# Altium schematic symbol library kmilo17pet-TI_RS232.SchLib: 1272 symbols (part 14 of 37)
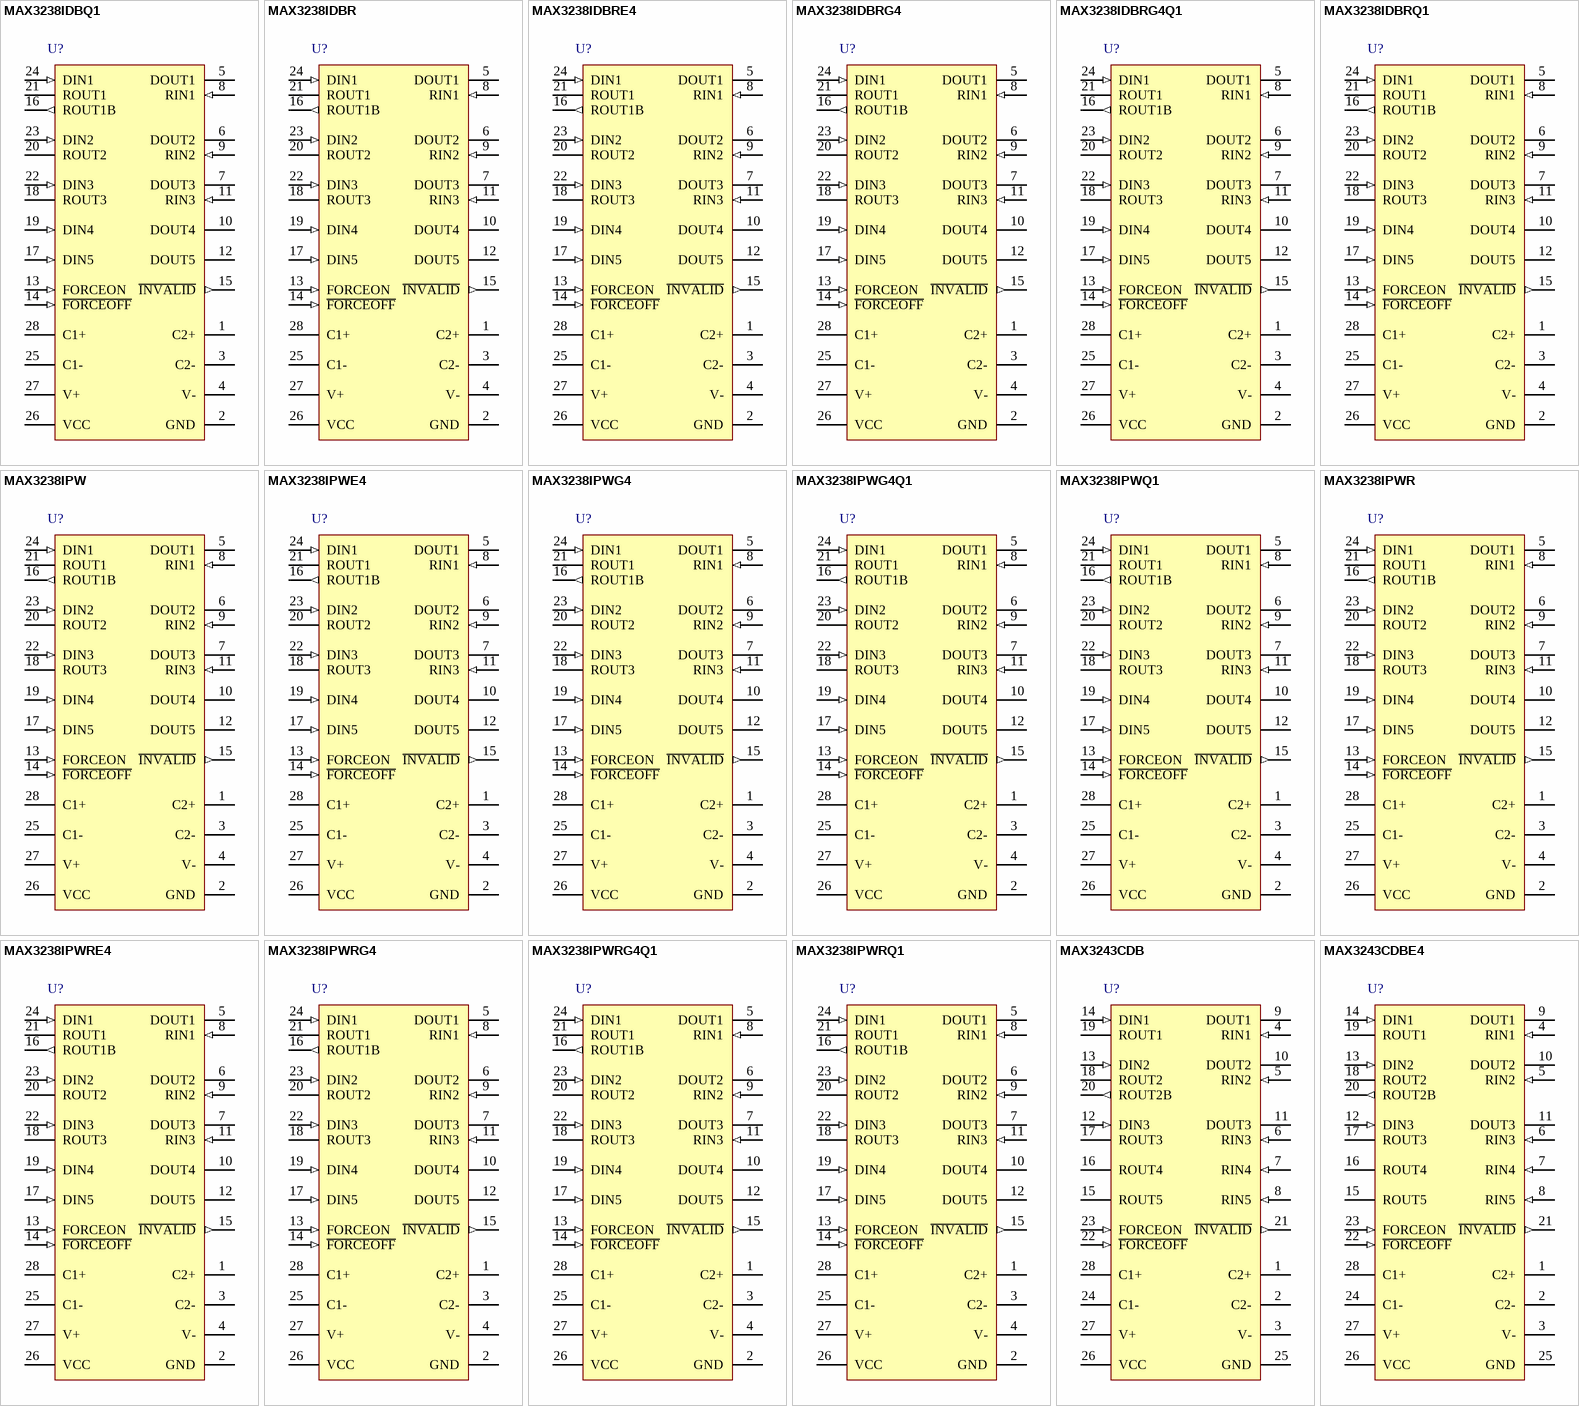
[diagram p67: symbols MAX3238IDBQ1 to MAX3243CDBE4]

## MAX3243CDB
designator U?
3-V to 5.5-V Multichannel RS-232 Line Driver / Receiver with ±15-kV ESD (HBM) Protection, 0 to 70 degC, 28-Pin SSOP (DB), Green (RoHS & no Sb/Br); Drivers Per Package: 3; Receivers Per Package: 5; Supply Voltage(s)(V): 3.3 or 5.0; ESD HBM(kV): +/-15; ICC(Max)(mA): 1; Single Supply: TRUE; DatasheetVersion: SLLS350L; PackageVersion: revE, Dec-2001; PackageReference: DB28; PackageDescription: 28-Pin Plastic Small Outline Package, 10.2 x 5.3 mm Body, 0.65 mm Pitch; SubFamily: RS-232; RS-232: TRUE; ComponentLink1Description: Manufacturer URL; ComponentLink1URL: www.ti.com; ComponentLink2Description: Datasheet; ComponentLink2URL: http://www.ti.com/general/docs/lit/getliterature.tsp?genericPartNumber=MAX3243&fileType=pdf; ComponentLink3Description: Package Specification; ComponentLink3URL: http://www.ti.com/litv/pdf/msso002e
footprint TI-DB28_N (SOP, 28-Leads, Body 10.2x5.3mm, Pitch 0.65mm, IPC Medium Density)
footprint TI-DB28_L (SOP, 28-Leads, Body 10.2x5.3mm, Pitch 0.65mm, IPC High Density)
footprint TI-DB28_M (SOP, 28-Leads, Body 10.2x5.3mm, Pitch 0.65mm, IPC Low Density)
pins: 1 C2+, 2 C2-, 3 V- (power), 4 RIN1 (in), 5 RIN2 (in), 6 RIN3 (in), 7 RIN4 (in), 8 RIN5 (in), 9 DOUT1 (hiz), 10 DOUT2 (hiz), 11 DOUT3 (hiz), 12 DIN3 (in), 13 DIN2 (in), 14 DIN1 (in), 15 ROUT5 (hiz), 16 ROUT4 (hiz), 17 ROUT3 (hiz), 18 ROUT2 (hiz), 19 ROUT1 (hiz), 20 ROUT2B (out), 21 ~{INVALID} (out), 22 ~{FORCEOFF} (in), 23 FORCEON (in), 24 C1-, 25 GND (power), 26 VCC (power), 27 V+ (power), 28 C1+

## MAX3243CDBE4
designator U?
3-V to 5.5-V Multichannel RS-232 Line Driver / Receiver with ±15-kV ESD (HBM) Protection, 0 to 70 degC, 28-Pin SSOP (DB), Green (RoHS & no Sb/Br); Drivers Per Package: 3; Receivers Per Package: 5; Supply Voltage(s)(V): 3.3 or 5.0; ESD HBM(kV): +/-15; ICC(Max)(mA): 1; Single Supply: TRUE; DatasheetVersion: SLLS350L; PackageVersion: revE, Dec-2001; PackageReference: DB28; PackageDescription: 28-Pin Plastic Small Outline Package, 10.2 x 5.3 mm Body, 0.65 mm Pitch; SubFamily: RS-232; RS-232: TRUE; ComponentLink1Description: Manufacturer URL; ComponentLink1URL: www.ti.com; ComponentLink2Description: Datasheet; ComponentLink2URL: http://www.ti.com/general/docs/lit/getliterature.tsp?genericPartNumber=MAX3243&fileType=pdf; ComponentLink3Description: Package Specification; ComponentLink3URL: http://www.ti.com/litv/pdf/msso002e
footprint TI-DB28_N (SOP, 28-Leads, Body 10.2x5.3mm, Pitch 0.65mm, IPC Medium Density)
footprint TI-DB28_L (SOP, 28-Leads, Body 10.2x5.3mm, Pitch 0.65mm, IPC High Density)
footprint TI-DB28_M (SOP, 28-Leads, Body 10.2x5.3mm, Pitch 0.65mm, IPC Low Density)
pins: 1 C2+, 2 C2-, 3 V- (power), 4 RIN1 (in), 5 RIN2 (in), 6 RIN3 (in), 7 RIN4 (in), 8 RIN5 (in), 9 DOUT1 (hiz), 10 DOUT2 (hiz), 11 DOUT3 (hiz), 12 DIN3 (in), 13 DIN2 (in), 14 DIN1 (in), 15 ROUT5 (hiz), 16 ROUT4 (hiz), 17 ROUT3 (hiz), 18 ROUT2 (hiz), 19 ROUT1 (hiz), 20 ROUT2B (out), 21 ~{INVALID} (out), 22 ~{FORCEOFF} (in), 23 FORCEON (in), 24 C1-, 25 GND (power), 26 VCC (power), 27 V+ (power), 28 C1+

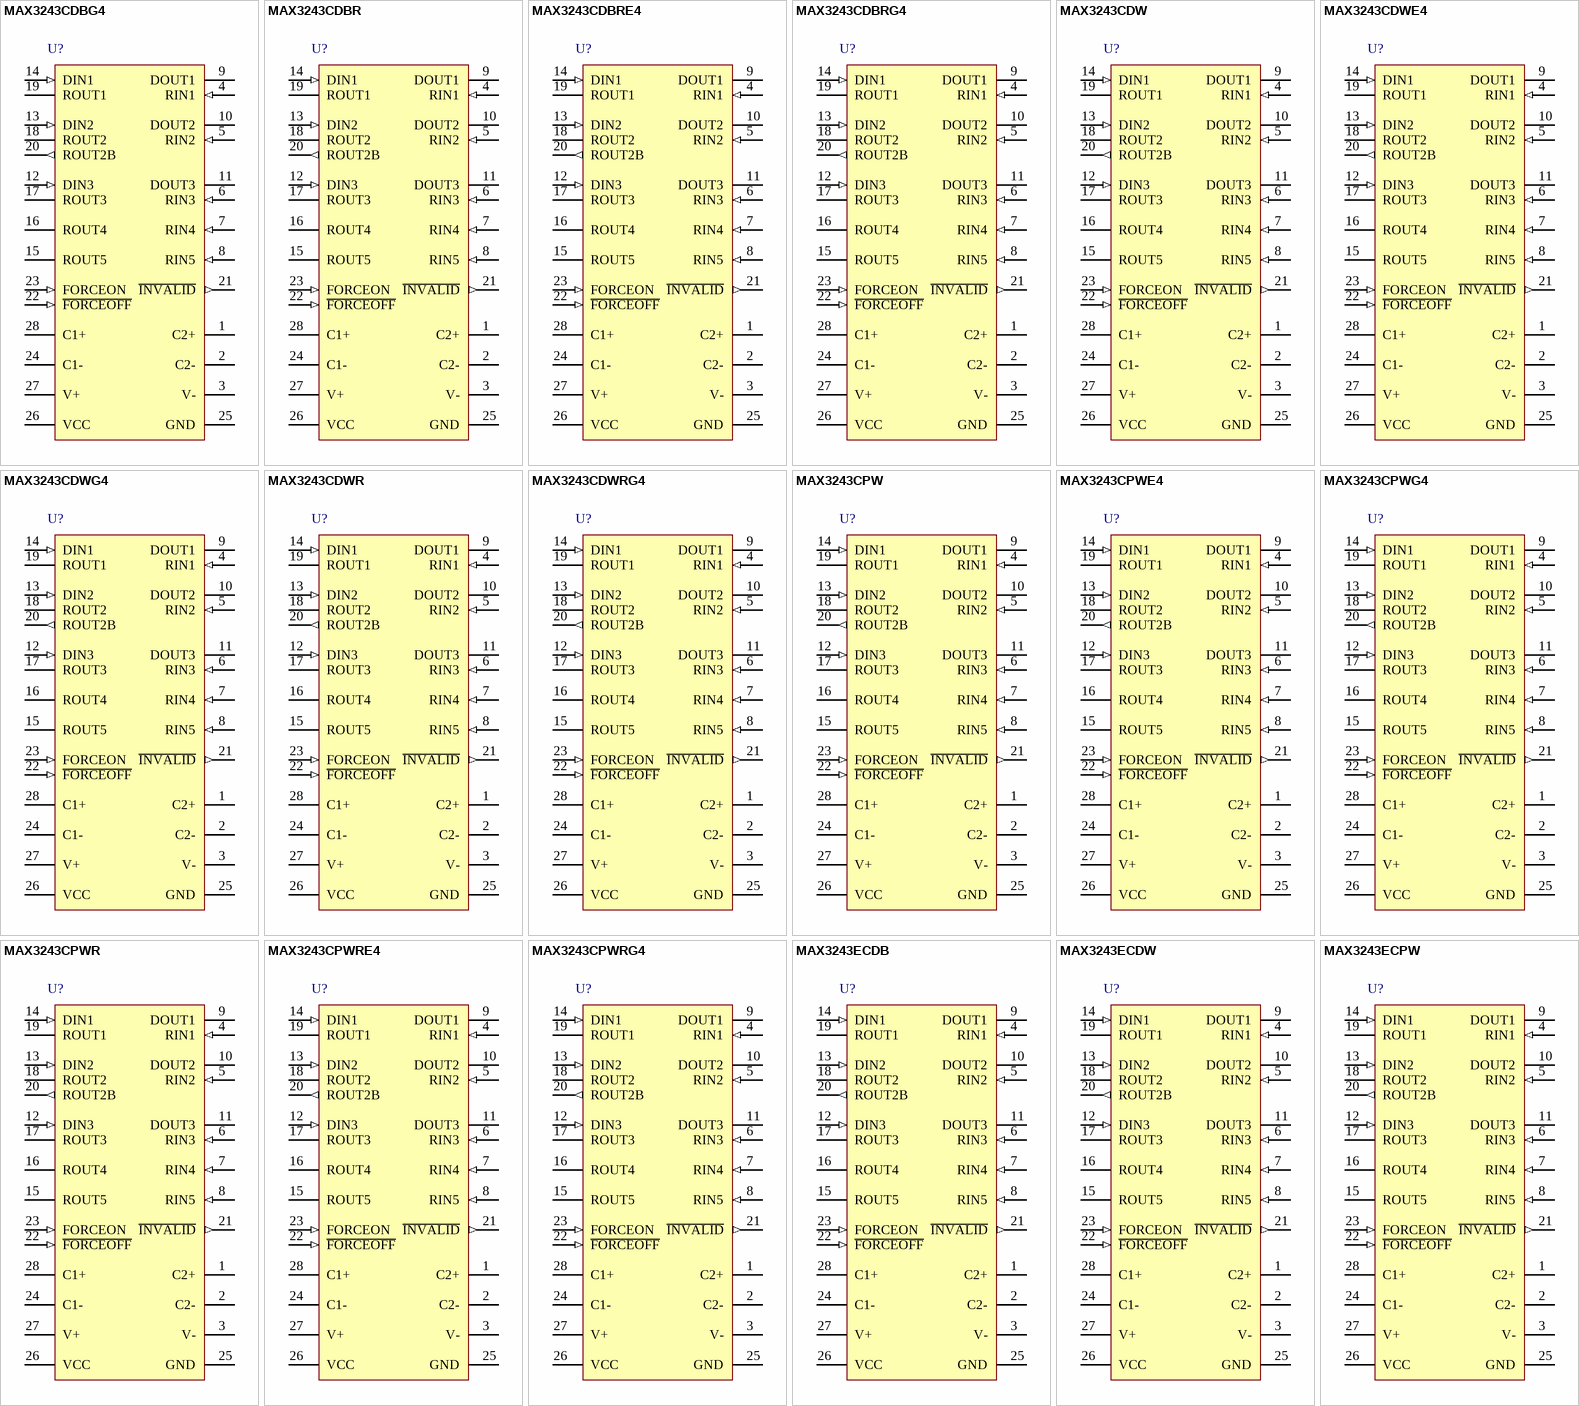
[diagram p19: symbols MAX3243CDBG4 to MAX3243ECPW]

## MAX3243CDBG4
designator U?
3-V to 5.5-V Multichannel RS-232 Line Driver / Receiver with ±15-kV ESD (HBM) Protection, 0 to 70 degC, 28-Pin SSOP (DB), Green (RoHS & no Sb/Br); Drivers Per Package: 3; Receivers Per Package: 5; Supply Voltage(s)(V): 3.3 or 5.0; ESD HBM(kV): +/-15; ICC(Max)(mA): 1; Single Supply: TRUE; DatasheetVersion: SLLS350L; PackageVersion: revE, Dec-2001; PackageReference: DB28; PackageDescription: 28-Pin Plastic Small Outline Package, 10.2 x 5.3 mm Body, 0.65 mm Pitch; SubFamily: RS-232; RS-232: TRUE; ComponentLink1Description: Manufacturer URL; ComponentLink1URL: www.ti.com; ComponentLink2Description: Datasheet; ComponentLink2URL: http://www.ti.com/general/docs/lit/getliterature.tsp?genericPartNumber=MAX3243&fileType=pdf; ComponentLink3Description: Package Specification; ComponentLink3URL: http://www.ti.com/litv/pdf/msso002e
footprint TI-DB28_N (SOP, 28-Leads, Body 10.2x5.3mm, Pitch 0.65mm, IPC Medium Density)
footprint TI-DB28_L (SOP, 28-Leads, Body 10.2x5.3mm, Pitch 0.65mm, IPC High Density)
footprint TI-DB28_M (SOP, 28-Leads, Body 10.2x5.3mm, Pitch 0.65mm, IPC Low Density)
pins: 1 C2+, 2 C2-, 3 V- (power), 4 RIN1 (in), 5 RIN2 (in), 6 RIN3 (in), 7 RIN4 (in), 8 RIN5 (in), 9 DOUT1 (hiz), 10 DOUT2 (hiz), 11 DOUT3 (hiz), 12 DIN3 (in), 13 DIN2 (in), 14 DIN1 (in), 15 ROUT5 (hiz), 16 ROUT4 (hiz), 17 ROUT3 (hiz), 18 ROUT2 (hiz), 19 ROUT1 (hiz), 20 ROUT2B (out), 21 ~{INVALID} (out), 22 ~{FORCEOFF} (in), 23 FORCEON (in), 24 C1-, 25 GND (power), 26 VCC (power), 27 V+ (power), 28 C1+

## MAX3243CDBR
designator U?
3-V to 5.5-V Multichannel RS-232 Line Driver / Receiver with ±15-kV ESD (HBM) Protection, 0 to 70 degC, 28-Pin SSOP (DB), Green (RoHS & no Sb/Br); Drivers Per Package: 3; Receivers Per Package: 5; Supply Voltage(s)(V): 3.3 or 5.0; ESD HBM(kV): +/-15; ICC(Max)(mA): 1; Single Supply: TRUE; DatasheetVersion: SLLS350L; PackageVersion: revE, Dec-2001; PackageReference: DB28; PackageDescription: 28-Pin Plastic Small Outline Package, 10.2 x 5.3 mm Body, 0.65 mm Pitch; SubFamily: RS-232; RS-232: TRUE; ComponentLink1Description: Manufacturer URL; ComponentLink1URL: www.ti.com; ComponentLink2Description: Datasheet; ComponentLink2URL: http://www.ti.com/general/docs/lit/getliterature.tsp?genericPartNumber=MAX3243&fileType=pdf; ComponentLink3Description: Package Specification; ComponentLink3URL: http://www.ti.com/litv/pdf/msso002e
footprint TI-DB28_N (SOP, 28-Leads, Body 10.2x5.3mm, Pitch 0.65mm, IPC Medium Density)
footprint TI-DB28_L (SOP, 28-Leads, Body 10.2x5.3mm, Pitch 0.65mm, IPC High Density)
footprint TI-DB28_M (SOP, 28-Leads, Body 10.2x5.3mm, Pitch 0.65mm, IPC Low Density)
pins: 1 C2+, 2 C2-, 3 V- (power), 4 RIN1 (in), 5 RIN2 (in), 6 RIN3 (in), 7 RIN4 (in), 8 RIN5 (in), 9 DOUT1 (hiz), 10 DOUT2 (hiz), 11 DOUT3 (hiz), 12 DIN3 (in), 13 DIN2 (in), 14 DIN1 (in), 15 ROUT5 (hiz), 16 ROUT4 (hiz), 17 ROUT3 (hiz), 18 ROUT2 (hiz), 19 ROUT1 (hiz), 20 ROUT2B (out), 21 ~{INVALID} (out), 22 ~{FORCEOFF} (in), 23 FORCEON (in), 24 C1-, 25 GND (power), 26 VCC (power), 27 V+ (power), 28 C1+

## MAX3243CDBRE4
designator U?
3-V to 5.5-V Multichannel RS-232 Line Driver / Receiver with ±15-kV ESD (HBM) Protection, 0 to 70 degC, 28-Pin SSOP (DB), Green (RoHS & no Sb/Br); Drivers Per Package: 3; Receivers Per Package: 5; Supply Voltage(s)(V): 3.3 or 5.0; ESD HBM(kV): +/-15; ICC(Max)(mA): 1; Single Supply: TRUE; DatasheetVersion: SLLS350L; PackageVersion: revE, Dec-2001; PackageReference: DB28; PackageDescription: 28-Pin Plastic Small Outline Package, 10.2 x 5.3 mm Body, 0.65 mm Pitch; SubFamily: RS-232; RS-232: TRUE; ComponentLink1Description: Manufacturer URL; ComponentLink1URL: www.ti.com; ComponentLink2Description: Datasheet; ComponentLink2URL: http://www.ti.com/general/docs/lit/getliterature.tsp?genericPartNumber=MAX3243&fileType=pdf; ComponentLink3Description: Package Specification; ComponentLink3URL: http://www.ti.com/litv/pdf/msso002e
footprint TI-DB28_N (SOP, 28-Leads, Body 10.2x5.3mm, Pitch 0.65mm, IPC Medium Density)
footprint TI-DB28_L (SOP, 28-Leads, Body 10.2x5.3mm, Pitch 0.65mm, IPC High Density)
footprint TI-DB28_M (SOP, 28-Leads, Body 10.2x5.3mm, Pitch 0.65mm, IPC Low Density)
pins: 1 C2+, 2 C2-, 3 V- (power), 4 RIN1 (in), 5 RIN2 (in), 6 RIN3 (in), 7 RIN4 (in), 8 RIN5 (in), 9 DOUT1 (hiz), 10 DOUT2 (hiz), 11 DOUT3 (hiz), 12 DIN3 (in), 13 DIN2 (in), 14 DIN1 (in), 15 ROUT5 (hiz), 16 ROUT4 (hiz), 17 ROUT3 (hiz), 18 ROUT2 (hiz), 19 ROUT1 (hiz), 20 ROUT2B (out), 21 ~{INVALID} (out), 22 ~{FORCEOFF} (in), 23 FORCEON (in), 24 C1-, 25 GND (power), 26 VCC (power), 27 V+ (power), 28 C1+

## MAX3243CDBRG4
designator U?
3-V to 5.5-V Multichannel RS-232 Line Driver / Receiver with ±15-kV ESD (HBM) Protection, 0 to 70 degC, 28-Pin SSOP (DB), Green (RoHS & no Sb/Br); Drivers Per Package: 3; Receivers Per Package: 5; Supply Voltage(s)(V): 3.3 or 5.0; ESD HBM(kV): +/-15; ICC(Max)(mA): 1; Single Supply: TRUE; DatasheetVersion: SLLS350L; PackageVersion: revE, Dec-2001; PackageReference: DB28; PackageDescription: 28-Pin Plastic Small Outline Package, 10.2 x 5.3 mm Body, 0.65 mm Pitch; SubFamily: RS-232; RS-232: TRUE; ComponentLink1Description: Manufacturer URL; ComponentLink1URL: www.ti.com; ComponentLink2Description: Datasheet; ComponentLink2URL: http://www.ti.com/general/docs/lit/getliterature.tsp?genericPartNumber=MAX3243&fileType=pdf; ComponentLink3Description: Package Specification; ComponentLink3URL: http://www.ti.com/litv/pdf/msso002e
footprint TI-DB28_N (SOP, 28-Leads, Body 10.2x5.3mm, Pitch 0.65mm, IPC Medium Density)
footprint TI-DB28_L (SOP, 28-Leads, Body 10.2x5.3mm, Pitch 0.65mm, IPC High Density)
footprint TI-DB28_M (SOP, 28-Leads, Body 10.2x5.3mm, Pitch 0.65mm, IPC Low Density)
pins: 1 C2+, 2 C2-, 3 V- (power), 4 RIN1 (in), 5 RIN2 (in), 6 RIN3 (in), 7 RIN4 (in), 8 RIN5 (in), 9 DOUT1 (hiz), 10 DOUT2 (hiz), 11 DOUT3 (hiz), 12 DIN3 (in), 13 DIN2 (in), 14 DIN1 (in), 15 ROUT5 (hiz), 16 ROUT4 (hiz), 17 ROUT3 (hiz), 18 ROUT2 (hiz), 19 ROUT1 (hiz), 20 ROUT2B (out), 21 ~{INVALID} (out), 22 ~{FORCEOFF} (in), 23 FORCEON (in), 24 C1-, 25 GND (power), 26 VCC (power), 27 V+ (power), 28 C1+

## MAX3243CDW
designator U?
3-V to 5.5-V Multichannel RS-232 Line Driver / Receiver with ±15-kV ESD (HBM) Protection, 0 to 70 degC, 28-Pin SOIC (DW), Green (RoHS & no Sb/Br); Drivers Per Package: 3; Receivers Per Package: 5; Supply Voltage(s)(V): 3.3 or 5.0; ESD HBM(kV): +/-15; ICC(Max)(mA): 1; Single Supply: TRUE; DatasheetVersion: SLLS350L; PackageVersion: revG, Jan-2011; PackageReference: DW28; PackageDescription: 28-Pin Plastic Small Outline Integrated Circuit, 17.9 x 7.5 mm, Pitch 1.27 mm Pitch; SubFamily: RS-232; RS-232: TRUE; ComponentLink1Description: Manufacturer URL; ComponentLink1URL: www.ti.com; ComponentLink2Description: Datasheet; ComponentLink2URL: http://www.ti.com/general/docs/lit/getliterature.tsp?genericPartNumber=MAX3243&fileType=pdf; ComponentLink3Description: Package Specification; ComponentLink3URL: http://www.ti.com/litv/pdf/mpds175a
footprint TI-DW28_N (SOIC, 28-Leads, Body 17.9x7.5mm, Pitch 1.27mm, IPC Medium Density)
footprint TI-DW28_L (SOIC, 28-Leads, Body 17.9x7.5mm, Pitch 1.27mm, IPC High Density)
footprint TI-DW28_M (SOIC, 28-Leads, Body 17.9x7.5mm, Pitch 1.27mm, IPC Low Density)
pins: 1 C2+, 2 C2-, 3 V- (power), 4 RIN1 (in), 5 RIN2 (in), 6 RIN3 (in), 7 RIN4 (in), 8 RIN5 (in), 9 DOUT1 (hiz), 10 DOUT2 (hiz), 11 DOUT3 (hiz), 12 DIN3 (in), 13 DIN2 (in), 14 DIN1 (in), 15 ROUT5 (hiz), 16 ROUT4 (hiz), 17 ROUT3 (hiz), 18 ROUT2 (hiz), 19 ROUT1 (hiz), 20 ROUT2B (out), 21 ~{INVALID} (out), 22 ~{FORCEOFF} (in), 23 FORCEON (in), 24 C1-, 25 GND (power), 26 VCC (power), 27 V+ (power), 28 C1+

## MAX3243CDWE4
designator U?
3-V to 5.5-V Multichannel RS-232 Line Driver / Receiver with ±15-kV ESD (HBM) Protection, 0 to 70 degC, 28-Pin SOIC (DW), Green (RoHS & no Sb/Br); Drivers Per Package: 3; Receivers Per Package: 5; Supply Voltage(s)(V): 3.3 or 5.0; ESD HBM(kV): +/-15; ICC(Max)(mA): 1; Single Supply: TRUE; DatasheetVersion: SLLS350L; PackageVersion: revG, Jan-2011; PackageReference: DW28; PackageDescription: 28-Pin Plastic Small Outline Integrated Circuit, 17.9 x 7.5 mm, Pitch 1.27 mm Pitch; SubFamily: RS-232; RS-232: TRUE; ComponentLink1Description: Manufacturer URL; ComponentLink1URL: www.ti.com; ComponentLink2Description: Datasheet; ComponentLink2URL: http://www.ti.com/general/docs/lit/getliterature.tsp?genericPartNumber=MAX3243&fileType=pdf; ComponentLink3Description: Package Specification; ComponentLink3URL: http://www.ti.com/litv/pdf/mpds175a
footprint TI-DW28_N (SOIC, 28-Leads, Body 17.9x7.5mm, Pitch 1.27mm, IPC Medium Density)
footprint TI-DW28_L (SOIC, 28-Leads, Body 17.9x7.5mm, Pitch 1.27mm, IPC High Density)
footprint TI-DW28_M (SOIC, 28-Leads, Body 17.9x7.5mm, Pitch 1.27mm, IPC Low Density)
pins: 1 C2+, 2 C2-, 3 V- (power), 4 RIN1 (in), 5 RIN2 (in), 6 RIN3 (in), 7 RIN4 (in), 8 RIN5 (in), 9 DOUT1 (hiz), 10 DOUT2 (hiz), 11 DOUT3 (hiz), 12 DIN3 (in), 13 DIN2 (in), 14 DIN1 (in), 15 ROUT5 (hiz), 16 ROUT4 (hiz), 17 ROUT3 (hiz), 18 ROUT2 (hiz), 19 ROUT1 (hiz), 20 ROUT2B (out), 21 ~{INVALID} (out), 22 ~{FORCEOFF} (in), 23 FORCEON (in), 24 C1-, 25 GND (power), 26 VCC (power), 27 V+ (power), 28 C1+

## MAX3243CDWG4
designator U?
3-V to 5.5-V Multichannel RS-232 Line Driver / Receiver with ±15-kV ESD (HBM) Protection, 0 to 70 degC, 28-Pin SOIC (DW), Green (RoHS & no Sb/Br); Drivers Per Package: 3; Receivers Per Package: 5; Supply Voltage(s)(V): 3.3 or 5.0; ESD HBM(kV): +/-15; ICC(Max)(mA): 1; Single Supply: TRUE; DatasheetVersion: SLLS350L; PackageVersion: revG, Jan-2011; PackageReference: DW28; PackageDescription: 28-Pin Plastic Small Outline Integrated Circuit, 17.9 x 7.5 mm, Pitch 1.27 mm Pitch; SubFamily: RS-232; RS-232: TRUE; ComponentLink1Description: Manufacturer URL; ComponentLink1URL: www.ti.com; ComponentLink2Description: Datasheet; ComponentLink2URL: http://www.ti.com/general/docs/lit/getliterature.tsp?genericPartNumber=MAX3243&fileType=pdf; ComponentLink3Description: Package Specification; ComponentLink3URL: http://www.ti.com/litv/pdf/mpds175a
footprint TI-DW28_N (SOIC, 28-Leads, Body 17.9x7.5mm, Pitch 1.27mm, IPC Medium Density)
footprint TI-DW28_L (SOIC, 28-Leads, Body 17.9x7.5mm, Pitch 1.27mm, IPC High Density)
footprint TI-DW28_M (SOIC, 28-Leads, Body 17.9x7.5mm, Pitch 1.27mm, IPC Low Density)
pins: 1 C2+, 2 C2-, 3 V- (power), 4 RIN1 (in), 5 RIN2 (in), 6 RIN3 (in), 7 RIN4 (in), 8 RIN5 (in), 9 DOUT1 (hiz), 10 DOUT2 (hiz), 11 DOUT3 (hiz), 12 DIN3 (in), 13 DIN2 (in), 14 DIN1 (in), 15 ROUT5 (hiz), 16 ROUT4 (hiz), 17 ROUT3 (hiz), 18 ROUT2 (hiz), 19 ROUT1 (hiz), 20 ROUT2B (out), 21 ~{INVALID} (out), 22 ~{FORCEOFF} (in), 23 FORCEON (in), 24 C1-, 25 GND (power), 26 VCC (power), 27 V+ (power), 28 C1+

## MAX3243CDWR
designator U?
3-V to 5.5-V Multichannel RS-232 Line Driver / Receiver with ±15-kV ESD (HBM) Protection, 0 to 70 degC, 28-Pin SOIC (DW), Green (RoHS & no Sb/Br); Drivers Per Package: 3; Receivers Per Package: 5; Supply Voltage(s)(V): 3.3 or 5.0; ESD HBM(kV): +/-15; ICC(Max)(mA): 1; Single Supply: TRUE; DatasheetVersion: SLLS350L; PackageVersion: revG, Jan-2011; PackageReference: DW28; PackageDescription: 28-Pin Plastic Small Outline Integrated Circuit, 17.9 x 7.5 mm, Pitch 1.27 mm Pitch; SubFamily: RS-232; RS-232: TRUE; ComponentLink1Description: Manufacturer URL; ComponentLink1URL: www.ti.com; ComponentLink2Description: Datasheet; ComponentLink2URL: http://www.ti.com/general/docs/lit/getliterature.tsp?genericPartNumber=MAX3243&fileType=pdf; ComponentLink3Description: Package Specification; ComponentLink3URL: http://www.ti.com/litv/pdf/mpds175a
footprint TI-DW28_N (SOIC, 28-Leads, Body 17.9x7.5mm, Pitch 1.27mm, IPC Medium Density)
footprint TI-DW28_L (SOIC, 28-Leads, Body 17.9x7.5mm, Pitch 1.27mm, IPC High Density)
footprint TI-DW28_M (SOIC, 28-Leads, Body 17.9x7.5mm, Pitch 1.27mm, IPC Low Density)
pins: 1 C2+, 2 C2-, 3 V- (power), 4 RIN1 (in), 5 RIN2 (in), 6 RIN3 (in), 7 RIN4 (in), 8 RIN5 (in), 9 DOUT1 (hiz), 10 DOUT2 (hiz), 11 DOUT3 (hiz), 12 DIN3 (in), 13 DIN2 (in), 14 DIN1 (in), 15 ROUT5 (hiz), 16 ROUT4 (hiz), 17 ROUT3 (hiz), 18 ROUT2 (hiz), 19 ROUT1 (hiz), 20 ROUT2B (out), 21 ~{INVALID} (out), 22 ~{FORCEOFF} (in), 23 FORCEON (in), 24 C1-, 25 GND (power), 26 VCC (power), 27 V+ (power), 28 C1+

## MAX3243CDWRG4
designator U?
3-V to 5.5-V Multichannel RS-232 Line Driver / Receiver with ±15-kV ESD (HBM) Protection, 0 to 70 degC, 28-Pin SOIC (DW), Green (RoHS & no Sb/Br); Drivers Per Package: 3; Receivers Per Package: 5; Supply Voltage(s)(V): 3.3 or 5.0; ESD HBM(kV): +/-15; ICC(Max)(mA): 1; Single Supply: TRUE; DatasheetVersion: SLLS350L; PackageVersion: revG, Jan-2011; PackageReference: DW28; PackageDescription: 28-Pin Plastic Small Outline Integrated Circuit, 17.9 x 7.5 mm, Pitch 1.27 mm Pitch; SubFamily: RS-232; RS-232: TRUE; ComponentLink1Description: Manufacturer URL; ComponentLink1URL: www.ti.com; ComponentLink2Description: Datasheet; ComponentLink2URL: http://www.ti.com/general/docs/lit/getliterature.tsp?genericPartNumber=MAX3243&fileType=pdf; ComponentLink3Description: Package Specification; ComponentLink3URL: http://www.ti.com/litv/pdf/mpds175a
footprint TI-DW28_N (SOIC, 28-Leads, Body 17.9x7.5mm, Pitch 1.27mm, IPC Medium Density)
footprint TI-DW28_L (SOIC, 28-Leads, Body 17.9x7.5mm, Pitch 1.27mm, IPC High Density)
footprint TI-DW28_M (SOIC, 28-Leads, Body 17.9x7.5mm, Pitch 1.27mm, IPC Low Density)
pins: 1 C2+, 2 C2-, 3 V- (power), 4 RIN1 (in), 5 RIN2 (in), 6 RIN3 (in), 7 RIN4 (in), 8 RIN5 (in), 9 DOUT1 (hiz), 10 DOUT2 (hiz), 11 DOUT3 (hiz), 12 DIN3 (in), 13 DIN2 (in), 14 DIN1 (in), 15 ROUT5 (hiz), 16 ROUT4 (hiz), 17 ROUT3 (hiz), 18 ROUT2 (hiz), 19 ROUT1 (hiz), 20 ROUT2B (out), 21 ~{INVALID} (out), 22 ~{FORCEOFF} (in), 23 FORCEON (in), 24 C1-, 25 GND (power), 26 VCC (power), 27 V+ (power), 28 C1+

## MAX3243CPW
designator U?
3-V to 5.5-V Multichannel RS-232 Line Driver / Receiver with ±15-kV ESD (HBM) Protection, 0 to 70 degC, 28-Pin TSSOP (PW), Green (RoHS & no Sb/Br); Drivers Per Package: 3; Receivers Per Package: 5; Supply Voltage(s)(V): 3.3 or 5.0; ESD HBM(kV): +/-15; ICC(Max)(mA): 1; Single Supply: TRUE; DatasheetVersion: SLLS350L; PackageVersion: revG, Feb-2011; PackageReference: PW28; PackageDescription: 28-Pin Plastic Thin Small Outline Package 9.7 x 4.4 mm Body ,0.65 mm Pitch; SubFamily: RS-232; RS-232: TRUE; ComponentLink1Description: Manufacturer URL; ComponentLink1URL: www.ti.com; ComponentLink2Description: Datasheet; ComponentLink2URL: http://www.ti.com/general/docs/lit/getliterature.tsp?genericPartNumber=MAX3243&fileType=pdf; ComponentLink3Description: Package Specification; ComponentLink3URL: http://www.ti.com/litv/pdf/mpds364
footprint TI-PW28_N (TSOP, 28-Leads, Body 9.7x4.4mm, Pitch 0.65mm, IPC Medium Density)
footprint TI-PW28_L (TSOP, 28-Leads, Body 9.7x4.4mm, Pitch 0.65mm, IPC High Density)
footprint TI-PW28_M (TSOP, 28-Leads, Body 9.7x4.4mm, Pitch 0.65mm, IPC Low Density)
pins: 1 C2+, 2 C2-, 3 V- (power), 4 RIN1 (in), 5 RIN2 (in), 6 RIN3 (in), 7 RIN4 (in), 8 RIN5 (in), 9 DOUT1 (hiz), 10 DOUT2 (hiz), 11 DOUT3 (hiz), 12 DIN3 (in), 13 DIN2 (in), 14 DIN1 (in), 15 ROUT5 (hiz), 16 ROUT4 (hiz), 17 ROUT3 (hiz), 18 ROUT2 (hiz), 19 ROUT1 (hiz), 20 ROUT2B (out), 21 ~{INVALID} (out), 22 ~{FORCEOFF} (in), 23 FORCEON (in), 24 C1-, 25 GND (power), 26 VCC (power), 27 V+ (power), 28 C1+

## MAX3243CPWE4
designator U?
3-V to 5.5-V Multichannel RS-232 Line Driver / Receiver with ±15-kV ESD (HBM) Protection, 0 to 70 degC, 28-Pin TSSOP (PW), Green (RoHS & no Sb/Br); Drivers Per Package: 3; Receivers Per Package: 5; Supply Voltage(s)(V): 3.3 or 5.0; ESD HBM(kV): +/-15; ICC(Max)(mA): 1; Single Supply: TRUE; DatasheetVersion: SLLS350L; PackageVersion: revG, Feb-2011; PackageReference: PW28; PackageDescription: 28-Pin Plastic Thin Small Outline Package 9.7 x 4.4 mm Body ,0.65 mm Pitch; SubFamily: RS-232; RS-232: TRUE; ComponentLink1Description: Manufacturer URL; ComponentLink1URL: www.ti.com; ComponentLink2Description: Datasheet; ComponentLink2URL: http://www.ti.com/general/docs/lit/getliterature.tsp?genericPartNumber=MAX3243&fileType=pdf; ComponentLink3Description: Package Specification; ComponentLink3URL: http://www.ti.com/litv/pdf/mpds364
footprint TI-PW28_N (TSOP, 28-Leads, Body 9.7x4.4mm, Pitch 0.65mm, IPC Medium Density)
footprint TI-PW28_L (TSOP, 28-Leads, Body 9.7x4.4mm, Pitch 0.65mm, IPC High Density)
footprint TI-PW28_M (TSOP, 28-Leads, Body 9.7x4.4mm, Pitch 0.65mm, IPC Low Density)
pins: 1 C2+, 2 C2-, 3 V- (power), 4 RIN1 (in), 5 RIN2 (in), 6 RIN3 (in), 7 RIN4 (in), 8 RIN5 (in), 9 DOUT1 (hiz), 10 DOUT2 (hiz), 11 DOUT3 (hiz), 12 DIN3 (in), 13 DIN2 (in), 14 DIN1 (in), 15 ROUT5 (hiz), 16 ROUT4 (hiz), 17 ROUT3 (hiz), 18 ROUT2 (hiz), 19 ROUT1 (hiz), 20 ROUT2B (out), 21 ~{INVALID} (out), 22 ~{FORCEOFF} (in), 23 FORCEON (in), 24 C1-, 25 GND (power), 26 VCC (power), 27 V+ (power), 28 C1+

## MAX3243CPWG4
designator U?
3-V to 5.5-V Multichannel RS-232 Line Driver / Receiver with ±15-kV ESD (HBM) Protection, 0 to 70 degC, 28-Pin TSSOP (PW), Green (RoHS & no Sb/Br); Drivers Per Package: 3; Receivers Per Package: 5; Supply Voltage(s)(V): 3.3 or 5.0; ESD HBM(kV): +/-15; ICC(Max)(mA): 1; Single Supply: TRUE; DatasheetVersion: SLLS350L; PackageVersion: revG, Feb-2011; PackageReference: PW28; PackageDescription: 28-Pin Plastic Thin Small Outline Package 9.7 x 4.4 mm Body ,0.65 mm Pitch; SubFamily: RS-232; RS-232: TRUE; ComponentLink1Description: Manufacturer URL; ComponentLink1URL: www.ti.com; ComponentLink2Description: Datasheet; ComponentLink2URL: http://www.ti.com/general/docs/lit/getliterature.tsp?genericPartNumber=MAX3243&fileType=pdf; ComponentLink3Description: Package Specification; ComponentLink3URL: http://www.ti.com/litv/pdf/mpds364
footprint TI-PW28_N (TSOP, 28-Leads, Body 9.7x4.4mm, Pitch 0.65mm, IPC Medium Density)
footprint TI-PW28_L (TSOP, 28-Leads, Body 9.7x4.4mm, Pitch 0.65mm, IPC High Density)
footprint TI-PW28_M (TSOP, 28-Leads, Body 9.7x4.4mm, Pitch 0.65mm, IPC Low Density)
pins: 1 C2+, 2 C2-, 3 V- (power), 4 RIN1 (in), 5 RIN2 (in), 6 RIN3 (in), 7 RIN4 (in), 8 RIN5 (in), 9 DOUT1 (hiz), 10 DOUT2 (hiz), 11 DOUT3 (hiz), 12 DIN3 (in), 13 DIN2 (in), 14 DIN1 (in), 15 ROUT5 (hiz), 16 ROUT4 (hiz), 17 ROUT3 (hiz), 18 ROUT2 (hiz), 19 ROUT1 (hiz), 20 ROUT2B (out), 21 ~{INVALID} (out), 22 ~{FORCEOFF} (in), 23 FORCEON (in), 24 C1-, 25 GND (power), 26 VCC (power), 27 V+ (power), 28 C1+

## MAX3243CPWR
designator U?
3-V to 5.5-V Multichannel RS-232 Line Driver / Receiver with ±15-kV ESD (HBM) Protection, 0 to 70 degC, 28-Pin TSSOP (PW), Green (RoHS & no Sb/Br); Drivers Per Package: 3; Receivers Per Package: 5; Supply Voltage(s)(V): 3.3 or 5.0; ESD HBM(kV): +/-15; ICC(Max)(mA): 1; Single Supply: TRUE; DatasheetVersion: SLLS350L; PackageVersion: revG, Feb-2011; PackageReference: PW28; PackageDescription: 28-Pin Plastic Thin Small Outline Package 9.7 x 4.4 mm Body ,0.65 mm Pitch; SubFamily: RS-232; RS-232: TRUE; ComponentLink1Description: Manufacturer URL; ComponentLink1URL: www.ti.com; ComponentLink2Description: Datasheet; ComponentLink2URL: http://www.ti.com/general/docs/lit/getliterature.tsp?genericPartNumber=MAX3243&fileType=pdf; ComponentLink3Description: Package Specification; ComponentLink3URL: http://www.ti.com/litv/pdf/mpds364
footprint TI-PW28_N (TSOP, 28-Leads, Body 9.7x4.4mm, Pitch 0.65mm, IPC Medium Density)
footprint TI-PW28_L (TSOP, 28-Leads, Body 9.7x4.4mm, Pitch 0.65mm, IPC High Density)
footprint TI-PW28_M (TSOP, 28-Leads, Body 9.7x4.4mm, Pitch 0.65mm, IPC Low Density)
pins: 1 C2+, 2 C2-, 3 V- (power), 4 RIN1 (in), 5 RIN2 (in), 6 RIN3 (in), 7 RIN4 (in), 8 RIN5 (in), 9 DOUT1 (hiz), 10 DOUT2 (hiz), 11 DOUT3 (hiz), 12 DIN3 (in), 13 DIN2 (in), 14 DIN1 (in), 15 ROUT5 (hiz), 16 ROUT4 (hiz), 17 ROUT3 (hiz), 18 ROUT2 (hiz), 19 ROUT1 (hiz), 20 ROUT2B (out), 21 ~{INVALID} (out), 22 ~{FORCEOFF} (in), 23 FORCEON (in), 24 C1-, 25 GND (power), 26 VCC (power), 27 V+ (power), 28 C1+

## MAX3243CPWRE4
designator U?
3-V to 5.5-V Multichannel RS-232 Line Driver / Receiver with ±15-kV ESD (HBM) Protection, 0 to 70 degC, 28-Pin TSSOP (PW), Green (RoHS & no Sb/Br); Drivers Per Package: 3; Receivers Per Package: 5; Supply Voltage(s)(V): 3.3 or 5.0; ESD HBM(kV): +/-15; ICC(Max)(mA): 1; Single Supply: TRUE; DatasheetVersion: SLLS350L; PackageVersion: revG, Feb-2011; PackageReference: PW28; PackageDescription: 28-Pin Plastic Thin Small Outline Package 9.7 x 4.4 mm Body ,0.65 mm Pitch; SubFamily: RS-232; RS-232: TRUE; ComponentLink1Description: Manufacturer URL; ComponentLink1URL: www.ti.com; ComponentLink2Description: Datasheet; ComponentLink2URL: http://www.ti.com/general/docs/lit/getliterature.tsp?genericPartNumber=MAX3243&fileType=pdf; ComponentLink3Description: Package Specification; ComponentLink3URL: http://www.ti.com/litv/pdf/mpds364
footprint TI-PW28_N (TSOP, 28-Leads, Body 9.7x4.4mm, Pitch 0.65mm, IPC Medium Density)
footprint TI-PW28_L (TSOP, 28-Leads, Body 9.7x4.4mm, Pitch 0.65mm, IPC High Density)
footprint TI-PW28_M (TSOP, 28-Leads, Body 9.7x4.4mm, Pitch 0.65mm, IPC Low Density)
pins: 1 C2+, 2 C2-, 3 V- (power), 4 RIN1 (in), 5 RIN2 (in), 6 RIN3 (in), 7 RIN4 (in), 8 RIN5 (in), 9 DOUT1 (hiz), 10 DOUT2 (hiz), 11 DOUT3 (hiz), 12 DIN3 (in), 13 DIN2 (in), 14 DIN1 (in), 15 ROUT5 (hiz), 16 ROUT4 (hiz), 17 ROUT3 (hiz), 18 ROUT2 (hiz), 19 ROUT1 (hiz), 20 ROUT2B (out), 21 ~{INVALID} (out), 22 ~{FORCEOFF} (in), 23 FORCEON (in), 24 C1-, 25 GND (power), 26 VCC (power), 27 V+ (power), 28 C1+

## MAX3243CPWRG4
designator U?
3-V to 5.5-V Multichannel RS-232 Line Driver / Receiver with ±15-kV ESD (HBM) Protection, 0 to 70 degC, 28-Pin TSSOP (PW), Green (RoHS & no Sb/Br); Drivers Per Package: 3; Receivers Per Package: 5; Supply Voltage(s)(V): 3.3 or 5.0; ESD HBM(kV): +/-15; ICC(Max)(mA): 1; Single Supply: TRUE; DatasheetVersion: SLLS350L; PackageVersion: revG, Feb-2011; PackageReference: PW28; PackageDescription: 28-Pin Plastic Thin Small Outline Package 9.7 x 4.4 mm Body ,0.65 mm Pitch; SubFamily: RS-232; RS-232: TRUE; ComponentLink1Description: Manufacturer URL; ComponentLink1URL: www.ti.com; ComponentLink2Description: Datasheet; ComponentLink2URL: http://www.ti.com/general/docs/lit/getliterature.tsp?genericPartNumber=MAX3243&fileType=pdf; ComponentLink3Description: Package Specification; ComponentLink3URL: http://www.ti.com/litv/pdf/mpds364
footprint TI-PW28_N (TSOP, 28-Leads, Body 9.7x4.4mm, Pitch 0.65mm, IPC Medium Density)
footprint TI-PW28_L (TSOP, 28-Leads, Body 9.7x4.4mm, Pitch 0.65mm, IPC High Density)
footprint TI-PW28_M (TSOP, 28-Leads, Body 9.7x4.4mm, Pitch 0.65mm, IPC Low Density)
pins: 1 C2+, 2 C2-, 3 V- (power), 4 RIN1 (in), 5 RIN2 (in), 6 RIN3 (in), 7 RIN4 (in), 8 RIN5 (in), 9 DOUT1 (hiz), 10 DOUT2 (hiz), 11 DOUT3 (hiz), 12 DIN3 (in), 13 DIN2 (in), 14 DIN1 (in), 15 ROUT5 (hiz), 16 ROUT4 (hiz), 17 ROUT3 (hiz), 18 ROUT2 (hiz), 19 ROUT1 (hiz), 20 ROUT2B (out), 21 ~{INVALID} (out), 22 ~{FORCEOFF} (in), 23 FORCEON (in), 24 C1-, 25 GND (power), 26 VCC (power), 27 V+ (power), 28 C1+

## MAX3243ECDB
designator U?
3-V to 5.5-V Multichannel RS-232 Line Driver / Receiver with ±15-kV IEC ESD Protection, 0 to 70 degC, 28-Pin SSOP (DB), Green (RoHS & no Sb/Br); Drivers Per Package: 3; Receivers Per Package: 5; Supply Voltage(s)(V): 3.3 or 5.0; ESD HBM(kV): +/-15; ICC(Max)(mA): 1; Single Supply: TRUE; DatasheetVersion: SLLS657D; PackageVersion: revE, Dec-2001; PackageReference: DB28; PackageDescription: 28-Pin Plastic Small Outline Package, 10.2 x 5.3 mm Body, 0.65 mm Pitch; SubFamily: RS-232; RS-232: TRUE; IEC-61000-4-2 SUPPORT: TRUE; ComponentLink1Description: Manufacturer URL; ComponentLink1URL: www.ti.com; ComponentLink2Description: Datasheet; ComponentLink2URL: http://www.ti.com/general/docs/lit/getliterature.tsp?genericPartNumber=MAX3243E&fileType=pdf; ComponentLink3Description: Package Specification; ComponentLink3URL: http://www.ti.com/litv/pdf/msso002e
footprint TI-DB28_N (SOP, 28-Leads, Body 10.2x5.3mm, Pitch 0.65mm, IPC Medium Density)
footprint TI-DB28_L (SOP, 28-Leads, Body 10.2x5.3mm, Pitch 0.65mm, IPC High Density)
footprint TI-DB28_M (SOP, 28-Leads, Body 10.2x5.3mm, Pitch 0.65mm, IPC Low Density)
pins: 1 C2+, 2 C2-, 3 V- (power), 4 RIN1 (in), 5 RIN2 (in), 6 RIN3 (in), 7 RIN4 (in), 8 RIN5 (in), 9 DOUT1 (hiz), 10 DOUT2 (hiz), 11 DOUT3 (hiz), 12 DIN3 (in), 13 DIN2 (in), 14 DIN1 (in), 15 ROUT5 (hiz), 16 ROUT4 (hiz), 17 ROUT3 (hiz), 18 ROUT2 (hiz), 19 ROUT1 (hiz), 20 ROUT2B (out), 21 ~{INVALID} (out), 22 ~{FORCEOFF} (in), 23 FORCEON (in), 24 C1-, 25 GND (power), 26 VCC (power), 27 V+ (power), 28 C1+

## MAX3243ECDW
designator U?
3-V to 5.5-V Multichannel RS-232 Line Driver / Receiver with ±15-kV IEC ESD Protection, 0 to 70 degC, 28-Pin SOIC (DW), Green (RoHS & no Sb/Br); Drivers Per Package: 3; Receivers Per Package: 5; Supply Voltage(s)(V): 3.3 or 5.0; ESD HBM(kV): +/-15; ICC(Max)(mA): 1; Single Supply: TRUE; DatasheetVersion: SLLS657D; PackageVersion: revG, Jan-2011; PackageReference: DW28; PackageDescription: 28-Pin Plastic Small Outline Integrated Circuit, 17.9 x 7.5 mm, Pitch 1.27 mm Pitch; SubFamily: RS-232; RS-232: TRUE; IEC-61000-4-2 SUPPORT: TRUE; ComponentLink1Description: Manufacturer URL; ComponentLink1URL: www.ti.com; ComponentLink2Description: Datasheet; ComponentLink2URL: http://www.ti.com/general/docs/lit/getliterature.tsp?genericPartNumber=MAX3243E&fileType=pdf; ComponentLink3Description: Package Specification; ComponentLink3URL: http://www.ti.com/litv/pdf/mpds175a
footprint TI-DW28_N (SOIC, 28-Leads, Body 17.9x7.5mm, Pitch 1.27mm, IPC Medium Density)
footprint TI-DW28_L (SOIC, 28-Leads, Body 17.9x7.5mm, Pitch 1.27mm, IPC High Density)
footprint TI-DW28_M (SOIC, 28-Leads, Body 17.9x7.5mm, Pitch 1.27mm, IPC Low Density)
pins: 1 C2+, 2 C2-, 3 V- (power), 4 RIN1 (in), 5 RIN2 (in), 6 RIN3 (in), 7 RIN4 (in), 8 RIN5 (in), 9 DOUT1 (hiz), 10 DOUT2 (hiz), 11 DOUT3 (hiz), 12 DIN3 (in), 13 DIN2 (in), 14 DIN1 (in), 15 ROUT5 (hiz), 16 ROUT4 (hiz), 17 ROUT3 (hiz), 18 ROUT2 (hiz), 19 ROUT1 (hiz), 20 ROUT2B (out), 21 ~{INVALID} (out), 22 ~{FORCEOFF} (in), 23 FORCEON (in), 24 C1-, 25 GND (power), 26 VCC (power), 27 V+ (power), 28 C1+

## MAX3243ECPW
designator U?
3-V to 5.5-V Multichannel RS-232 Line Driver / Receiver with ±15-kV IEC ESD Protection, 0 to 70 degC, 28-Pin TSSOP (PW), Green (RoHS & no Sb/Br); Drivers Per Package: 3; Receivers Per Package: 5; Supply Voltage(s)(V): 3.3 or 5.0; ESD HBM(kV): +/-15; ICC(Max)(mA): 1; Single Supply: TRUE; DatasheetVersion: SLLS657D; PackageVersion: revG, Feb-2011; PackageReference: PW28; PackageDescription: 28-Pin Plastic Thin Small Outline Package 9.7 x 4.4 mm Body ,0.65 mm Pitch; SubFamily: RS-232; RS-232: TRUE; IEC-61000-4-2 SUPPORT: TRUE; ComponentLink1Description: Manufacturer URL; ComponentLink1URL: www.ti.com; ComponentLink2Description: Datasheet; ComponentLink2URL: http://www.ti.com/general/docs/lit/getliterature.tsp?genericPartNumber=MAX3243E&fileType=pdf; ComponentLink3Description: Package Specification; ComponentLink3URL: http://www.ti.com/litv/pdf/mpds364
footprint TI-PW28_N (TSOP, 28-Leads, Body 9.7x4.4mm, Pitch 0.65mm, IPC Medium Density)
footprint TI-PW28_L (TSOP, 28-Leads, Body 9.7x4.4mm, Pitch 0.65mm, IPC High Density)
footprint TI-PW28_M (TSOP, 28-Leads, Body 9.7x4.4mm, Pitch 0.65mm, IPC Low Density)
pins: 1 C2+, 2 C2-, 3 V- (power), 4 RIN1 (in), 5 RIN2 (in), 6 RIN3 (in), 7 RIN4 (in), 8 RIN5 (in), 9 DOUT1 (hiz), 10 DOUT2 (hiz), 11 DOUT3 (hiz), 12 DIN3 (in), 13 DIN2 (in), 14 DIN1 (in), 15 ROUT5 (hiz), 16 ROUT4 (hiz), 17 ROUT3 (hiz), 18 ROUT2 (hiz), 19 ROUT1 (hiz), 20 ROUT2B (out), 21 ~{INVALID} (out), 22 ~{FORCEOFF} (in), 23 FORCEON (in), 24 C1-, 25 GND (power), 26 VCC (power), 27 V+ (power), 28 C1+

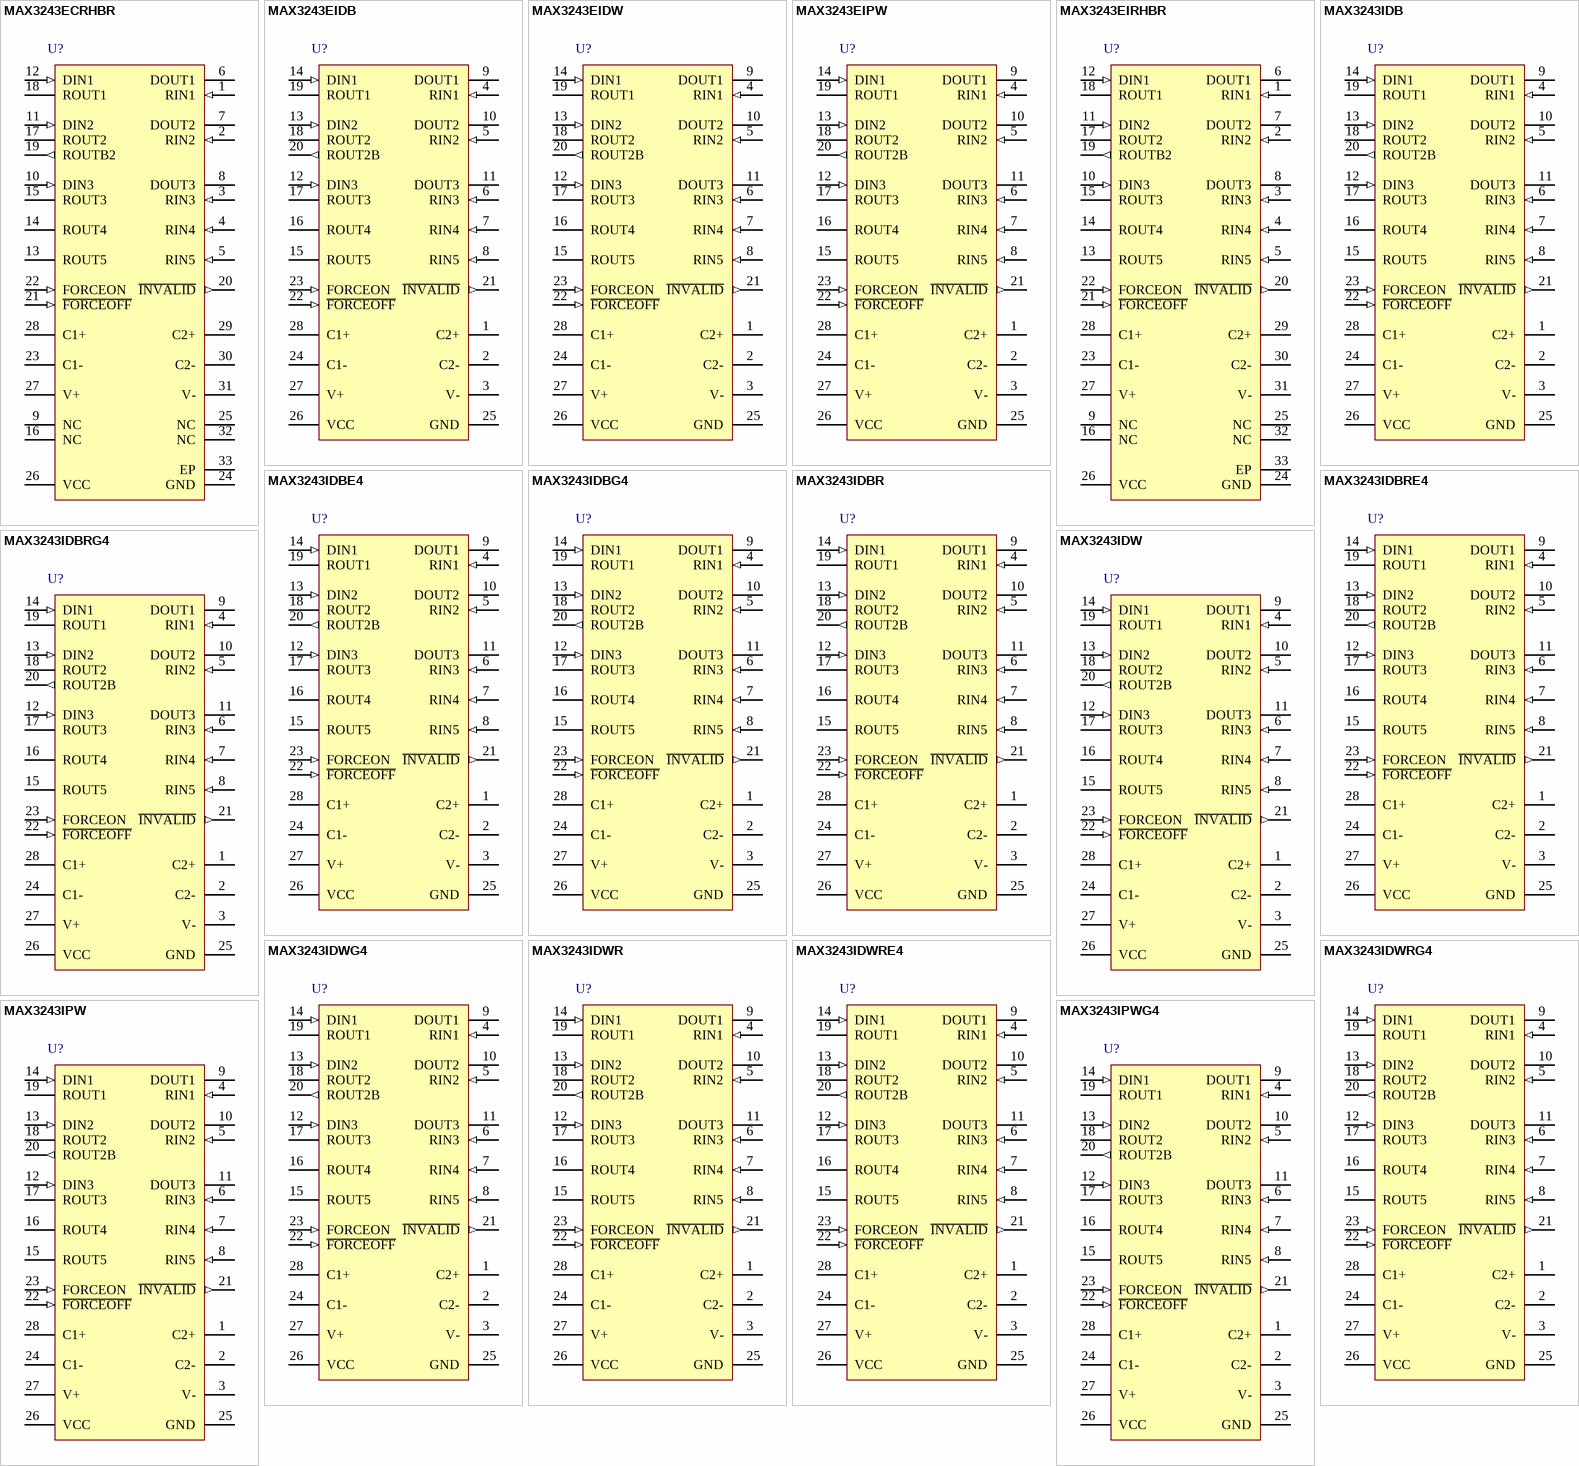
[diagram p20: symbols MAX3243ECRHBR to MAX3243IPWG4]

## MAX3243ECRHBR
designator U?
3-V to 5.5-V Multichannel RS-232 Line Driver / Receiver with ±15-kV IEC ESD Protection, 0 to 70 degC, 32-Pin QFN (RHB), Green (RoHS & no Sb/Br); Drivers Per Package: 3; Receivers Per Package: 5; Supply Voltage(s)(V): 3.3 or 5.0; ESD HBM(kV): +/-15; ICC(Max)(mA): 1; Single Supply: TRUE; DatasheetVersion: SLLS657D; PackageVersion: revD, Jun-2011; PackageReference: RHB32-3450X3450TP; PackageDescription: 32-Pin Plastic Quad Flat No-Lead, 5 x 5 mm Body, 0.5 mm Pitch, 3.45 x 3.45 mm Exposed Pad; SubFamily: RS-232; RS-232: TRUE; IEC-61000-4-2 SUPPORT: TRUE; ComponentLink1Description: Manufacturer URL; ComponentLink1URL: www.ti.com; ComponentLink2Description: Datasheet; ComponentLink2URL: http://www.ti.com/general/docs/lit/getliterature.tsp?genericPartNumber=MAX3243E&fileType=pdf; ComponentLink3Description: Package Specification; ComponentLink3URL: http://www.ti.com/litv/pdf/mpqf130c
footprint TI-RHB32-3450X3450TP (QFN, 32-Leads, Body 5x5mm, Pitch 0.5mm, Thermal Pad 3.45x3.45mm, TI Recommended)
pins: 1 RIN1 (in), 2 RIN2 (in), 3 RIN3 (in), 4 RIN4 (in), 5 RIN5 (in), 6 DOUT1 (hiz), 7 DOUT2 (hiz), 8 DOUT3 (hiz), 9 NC, 10 DIN3 (in), 11 DIN2 (in), 12 DIN1 (in), 13 ROUT5 (hiz), 14 ROUT4 (hiz), 15 ROUT3 (hiz), 16 NC, 17 ROUT2 (hiz), 18 ROUT1 (hiz), 19 ROUTB2 (out), 20 ~{INVALID} (out), 21 ~{FORCEOFF} (in), 22 FORCEON (in), 23 C1-, 24 GND (power), 25 NC, 26 VCC (power), 27 V+ (power), 28 C1+, 29 C2+, 30 C2-, 31 V- (power), 32 NC, 33 EP (power)

## MAX3243EIDB
designator U?
3-V to 5.5-V Multichannel RS-232 Line Driver / Receiver with ±15-kV IEC ESD Protection, -40 to 85 degC, 28-Pin SSOP (DB), Green (RoHS & no Sb/Br); Drivers Per Package: 3; Receivers Per Package: 5; Supply Voltage(s)(V): 3.3 or 5.0; ESD HBM(kV): +/-15; ICC(Max)(mA): 1; Single Supply: TRUE; DatasheetVersion: SLLS657D; PackageVersion: revE, Dec-2001; PackageReference: DB28; PackageDescription: 28-Pin Plastic Small Outline Package, 10.2 x 5.3 mm Body, 0.65 mm Pitch; SubFamily: RS-232; RS-232: TRUE; IEC-61000-4-2 SUPPORT: TRUE; ComponentLink1Description: Manufacturer URL; ComponentLink1URL: www.ti.com; ComponentLink2Description: Datasheet; ComponentLink2URL: http://www.ti.com/general/docs/lit/getliterature.tsp?genericPartNumber=MAX3243E&fileType=pdf; ComponentLink3Description: Package Specification; ComponentLink3URL: http://www.ti.com/litv/pdf/msso002e
footprint TI-DB28_N (SOP, 28-Leads, Body 10.2x5.3mm, Pitch 0.65mm, IPC Medium Density)
footprint TI-DB28_L (SOP, 28-Leads, Body 10.2x5.3mm, Pitch 0.65mm, IPC High Density)
footprint TI-DB28_M (SOP, 28-Leads, Body 10.2x5.3mm, Pitch 0.65mm, IPC Low Density)
pins: 1 C2+, 2 C2-, 3 V- (power), 4 RIN1 (in), 5 RIN2 (in), 6 RIN3 (in), 7 RIN4 (in), 8 RIN5 (in), 9 DOUT1 (hiz), 10 DOUT2 (hiz), 11 DOUT3 (hiz), 12 DIN3 (in), 13 DIN2 (in), 14 DIN1 (in), 15 ROUT5 (hiz), 16 ROUT4 (hiz), 17 ROUT3 (hiz), 18 ROUT2 (hiz), 19 ROUT1 (hiz), 20 ROUT2B (out), 21 ~{INVALID} (out), 22 ~{FORCEOFF} (in), 23 FORCEON (in), 24 C1-, 25 GND (power), 26 VCC (power), 27 V+ (power), 28 C1+

## MAX3243EIDW
designator U?
3-V to 5.5-V Multichannel RS-232 Line Driver / Receiver with ±15-kV IEC ESD Protection, -40 to 85 degC, 28-Pin SOIC (DW), Green (RoHS & no Sb/Br); Drivers Per Package: 3; Receivers Per Package: 5; Supply Voltage(s)(V): 3.3 or 5.0; ESD HBM(kV): +/-15; ICC(Max)(mA): 1; Single Supply: TRUE; DatasheetVersion: SLLS657D; PackageVersion: revG, Jan-2011; PackageReference: DW28; PackageDescription: 28-Pin Plastic Small Outline Integrated Circuit, 17.9 x 7.5 mm, Pitch 1.27 mm Pitch; SubFamily: RS-232; RS-232: TRUE; IEC-61000-4-2 SUPPORT: TRUE; ComponentLink1Description: Manufacturer URL; ComponentLink1URL: www.ti.com; ComponentLink2Description: Datasheet; ComponentLink2URL: http://www.ti.com/general/docs/lit/getliterature.tsp?genericPartNumber=MAX3243E&fileType=pdf; ComponentLink3Description: Package Specification; ComponentLink3URL: http://www.ti.com/litv/pdf/mpds175a
footprint TI-DW28_N (SOIC, 28-Leads, Body 17.9x7.5mm, Pitch 1.27mm, IPC Medium Density)
footprint TI-DW28_L (SOIC, 28-Leads, Body 17.9x7.5mm, Pitch 1.27mm, IPC High Density)
footprint TI-DW28_M (SOIC, 28-Leads, Body 17.9x7.5mm, Pitch 1.27mm, IPC Low Density)
pins: 1 C2+, 2 C2-, 3 V- (power), 4 RIN1 (in), 5 RIN2 (in), 6 RIN3 (in), 7 RIN4 (in), 8 RIN5 (in), 9 DOUT1 (hiz), 10 DOUT2 (hiz), 11 DOUT3 (hiz), 12 DIN3 (in), 13 DIN2 (in), 14 DIN1 (in), 15 ROUT5 (hiz), 16 ROUT4 (hiz), 17 ROUT3 (hiz), 18 ROUT2 (hiz), 19 ROUT1 (hiz), 20 ROUT2B (out), 21 ~{INVALID} (out), 22 ~{FORCEOFF} (in), 23 FORCEON (in), 24 C1-, 25 GND (power), 26 VCC (power), 27 V+ (power), 28 C1+

## MAX3243EIPW
designator U?
3-V to 5.5-V Multichannel RS-232 Line Driver / Receiver with ±15-kV IEC ESD Protection, -40 to 85 degC, 28-Pin TSSOP (PW), Green (RoHS & no Sb/Br); Drivers Per Package: 3; Receivers Per Package: 5; Supply Voltage(s)(V): 3.3 or 5.0; ESD HBM(kV): +/-15; ICC(Max)(mA): 1; Single Supply: TRUE; DatasheetVersion: SLLS657D; PackageVersion: revG, Feb-2011; PackageReference: PW28; PackageDescription: 28-Pin Plastic Thin Small Outline Package 9.7 x 4.4 mm Body ,0.65 mm Pitch; SubFamily: RS-232; RS-232: TRUE; IEC-61000-4-2 SUPPORT: TRUE; ComponentLink1Description: Manufacturer URL; ComponentLink1URL: www.ti.com; ComponentLink2Description: Datasheet; ComponentLink2URL: http://www.ti.com/general/docs/lit/getliterature.tsp?genericPartNumber=MAX3243E&fileType=pdf; ComponentLink3Description: Package Specification; ComponentLink3URL: http://www.ti.com/litv/pdf/mpds364
footprint TI-PW28_N (TSOP, 28-Leads, Body 9.7x4.4mm, Pitch 0.65mm, IPC Medium Density)
footprint TI-PW28_L (TSOP, 28-Leads, Body 9.7x4.4mm, Pitch 0.65mm, IPC High Density)
footprint TI-PW28_M (TSOP, 28-Leads, Body 9.7x4.4mm, Pitch 0.65mm, IPC Low Density)
pins: 1 C2+, 2 C2-, 3 V- (power), 4 RIN1 (in), 5 RIN2 (in), 6 RIN3 (in), 7 RIN4 (in), 8 RIN5 (in), 9 DOUT1 (hiz), 10 DOUT2 (hiz), 11 DOUT3 (hiz), 12 DIN3 (in), 13 DIN2 (in), 14 DIN1 (in), 15 ROUT5 (hiz), 16 ROUT4 (hiz), 17 ROUT3 (hiz), 18 ROUT2 (hiz), 19 ROUT1 (hiz), 20 ROUT2B (out), 21 ~{INVALID} (out), 22 ~{FORCEOFF} (in), 23 FORCEON (in), 24 C1-, 25 GND (power), 26 VCC (power), 27 V+ (power), 28 C1+

## MAX3243EIRHBR
designator U?
3-V to 5.5-V Multichannel RS-232 Line Driver / Receiver with ±15-kV IEC ESD Protection, -40 to 85 degC, 32-Pin QFN (RHB), Green (RoHS & no Sb/Br); Drivers Per Package: 3; Receivers Per Package: 5; Supply Voltage(s)(V): 3.3 or 5.0; ESD HBM(kV): +/-15; ICC(Max)(mA): 1; Single Supply: TRUE; DatasheetVersion: SLLS657D; PackageVersion: revD, Jun-2011; PackageReference: RHB32-3450X3450TP; PackageDescription: 32-Pin Plastic Quad Flat No-Lead, 5 x 5 mm Body, 0.5 mm Pitch, 3.45 x 3.45 mm Exposed Pad; SubFamily: RS-232; RS-232: TRUE; IEC-61000-4-2 SUPPORT: TRUE; ComponentLink1Description: Manufacturer URL; ComponentLink1URL: www.ti.com; ComponentLink2Description: Datasheet; ComponentLink2URL: http://www.ti.com/general/docs/lit/getliterature.tsp?genericPartNumber=MAX3243E&fileType=pdf; ComponentLink3Description: Package Specification; ComponentLink3URL: http://www.ti.com/litv/pdf/mpqf130c
footprint TI-RHB32-3450X3450TP (QFN, 32-Leads, Body 5x5mm, Pitch 0.5mm, Thermal Pad 3.45x3.45mm, TI Recommended)
pins: 1 RIN1 (in), 2 RIN2 (in), 3 RIN3 (in), 4 RIN4 (in), 5 RIN5 (in), 6 DOUT1 (hiz), 7 DOUT2 (hiz), 8 DOUT3 (hiz), 9 NC, 10 DIN3 (in), 11 DIN2 (in), 12 DIN1 (in), 13 ROUT5 (hiz), 14 ROUT4 (hiz), 15 ROUT3 (hiz), 16 NC, 17 ROUT2 (hiz), 18 ROUT1 (hiz), 19 ROUTB2 (out), 20 ~{INVALID} (out), 21 ~{FORCEOFF} (in), 22 FORCEON (in), 23 C1-, 24 GND (power), 25 NC, 26 VCC (power), 27 V+ (power), 28 C1+, 29 C2+, 30 C2-, 31 V- (power), 32 NC, 33 EP (power)

## MAX3243IDB
designator U?
3-V to 5.5-V Multichannel RS-232 Line Driver / Receiver with ±15-kV ESD (HBM) Protection, -40 to 85 degC, 28-Pin SSOP (DB), Green (RoHS & no Sb/Br); Drivers Per Package: 3; Receivers Per Package: 5; Supply Voltage(s)(V): 3.3 or 5.0; ESD HBM(kV): +/-15; ICC(Max)(mA): 1; Single Supply: TRUE; DatasheetVersion: SLLS350L; PackageVersion: revE, Dec-2001; PackageReference: DB28; PackageDescription: 28-Pin Plastic Small Outline Package, 10.2 x 5.3 mm Body, 0.65 mm Pitch; SubFamily: RS-232; RS-232: TRUE; ComponentLink1Description: Manufacturer URL; ComponentLink1URL: www.ti.com; ComponentLink2Description: Datasheet; ComponentLink2URL: http://www.ti.com/general/docs/lit/getliterature.tsp?genericPartNumber=MAX3243&fileType=pdf; ComponentLink3Description: Package Specification; ComponentLink3URL: http://www.ti.com/litv/pdf/msso002e
footprint TI-DB28_N (SOP, 28-Leads, Body 10.2x5.3mm, Pitch 0.65mm, IPC Medium Density)
footprint TI-DB28_L (SOP, 28-Leads, Body 10.2x5.3mm, Pitch 0.65mm, IPC High Density)
footprint TI-DB28_M (SOP, 28-Leads, Body 10.2x5.3mm, Pitch 0.65mm, IPC Low Density)
pins: 1 C2+, 2 C2-, 3 V- (power), 4 RIN1 (in), 5 RIN2 (in), 6 RIN3 (in), 7 RIN4 (in), 8 RIN5 (in), 9 DOUT1 (hiz), 10 DOUT2 (hiz), 11 DOUT3 (hiz), 12 DIN3 (in), 13 DIN2 (in), 14 DIN1 (in), 15 ROUT5 (hiz), 16 ROUT4 (hiz), 17 ROUT3 (hiz), 18 ROUT2 (hiz), 19 ROUT1 (hiz), 20 ROUT2B (out), 21 ~{INVALID} (out), 22 ~{FORCEOFF} (in), 23 FORCEON (in), 24 C1-, 25 GND (power), 26 VCC (power), 27 V+ (power), 28 C1+

## MAX3243IDBE4
designator U?
3-V to 5.5-V Multichannel RS-232 Line Driver / Receiver with ±15-kV ESD (HBM) Protection, -40 to 85 degC, 28-Pin SSOP (DB), Green (RoHS & no Sb/Br); Drivers Per Package: 3; Receivers Per Package: 5; Supply Voltage(s)(V): 3.3 or 5.0; ESD HBM(kV): +/-15; ICC(Max)(mA): 1; Single Supply: TRUE; DatasheetVersion: SLLS350L; PackageVersion: revE, Dec-2001; PackageReference: DB28; PackageDescription: 28-Pin Plastic Small Outline Package, 10.2 x 5.3 mm Body, 0.65 mm Pitch; SubFamily: RS-232; RS-232: TRUE; ComponentLink1Description: Manufacturer URL; ComponentLink1URL: www.ti.com; ComponentLink2Description: Datasheet; ComponentLink2URL: http://www.ti.com/general/docs/lit/getliterature.tsp?genericPartNumber=MAX3243&fileType=pdf; ComponentLink3Description: Package Specification; ComponentLink3URL: http://www.ti.com/litv/pdf/msso002e
footprint TI-DB28_N (SOP, 28-Leads, Body 10.2x5.3mm, Pitch 0.65mm, IPC Medium Density)
footprint TI-DB28_L (SOP, 28-Leads, Body 10.2x5.3mm, Pitch 0.65mm, IPC High Density)
footprint TI-DB28_M (SOP, 28-Leads, Body 10.2x5.3mm, Pitch 0.65mm, IPC Low Density)
pins: 1 C2+, 2 C2-, 3 V- (power), 4 RIN1 (in), 5 RIN2 (in), 6 RIN3 (in), 7 RIN4 (in), 8 RIN5 (in), 9 DOUT1 (hiz), 10 DOUT2 (hiz), 11 DOUT3 (hiz), 12 DIN3 (in), 13 DIN2 (in), 14 DIN1 (in), 15 ROUT5 (hiz), 16 ROUT4 (hiz), 17 ROUT3 (hiz), 18 ROUT2 (hiz), 19 ROUT1 (hiz), 20 ROUT2B (out), 21 ~{INVALID} (out), 22 ~{FORCEOFF} (in), 23 FORCEON (in), 24 C1-, 25 GND (power), 26 VCC (power), 27 V+ (power), 28 C1+

## MAX3243IDBG4
designator U?
3-V to 5.5-V Multichannel RS-232 Line Driver / Receiver with ±15-kV ESD (HBM) Protection, -40 to 85 degC, 28-Pin SSOP (DB), Green (RoHS & no Sb/Br); Drivers Per Package: 3; Receivers Per Package: 5; Supply Voltage(s)(V): 3.3 or 5.0; ESD HBM(kV): +/-15; ICC(Max)(mA): 1; Single Supply: TRUE; DatasheetVersion: SLLS350L; PackageVersion: revE, Dec-2001; PackageReference: DB28; PackageDescription: 28-Pin Plastic Small Outline Package, 10.2 x 5.3 mm Body, 0.65 mm Pitch; SubFamily: RS-232; RS-232: TRUE; ComponentLink1Description: Manufacturer URL; ComponentLink1URL: www.ti.com; ComponentLink2Description: Datasheet; ComponentLink2URL: http://www.ti.com/general/docs/lit/getliterature.tsp?genericPartNumber=MAX3243&fileType=pdf; ComponentLink3Description: Package Specification; ComponentLink3URL: http://www.ti.com/litv/pdf/msso002e
footprint TI-DB28_N (SOP, 28-Leads, Body 10.2x5.3mm, Pitch 0.65mm, IPC Medium Density)
footprint TI-DB28_L (SOP, 28-Leads, Body 10.2x5.3mm, Pitch 0.65mm, IPC High Density)
footprint TI-DB28_M (SOP, 28-Leads, Body 10.2x5.3mm, Pitch 0.65mm, IPC Low Density)
pins: 1 C2+, 2 C2-, 3 V- (power), 4 RIN1 (in), 5 RIN2 (in), 6 RIN3 (in), 7 RIN4 (in), 8 RIN5 (in), 9 DOUT1 (hiz), 10 DOUT2 (hiz), 11 DOUT3 (hiz), 12 DIN3 (in), 13 DIN2 (in), 14 DIN1 (in), 15 ROUT5 (hiz), 16 ROUT4 (hiz), 17 ROUT3 (hiz), 18 ROUT2 (hiz), 19 ROUT1 (hiz), 20 ROUT2B (out), 21 ~{INVALID} (out), 22 ~{FORCEOFF} (in), 23 FORCEON (in), 24 C1-, 25 GND (power), 26 VCC (power), 27 V+ (power), 28 C1+

## MAX3243IDBR
designator U?
3-V to 5.5-V Multichannel RS-232 Line Driver / Receiver with ±15-kV ESD (HBM) Protection, -40 to 85 degC, 28-Pin SSOP (DB), Green (RoHS & no Sb/Br); Drivers Per Package: 3; Receivers Per Package: 5; Supply Voltage(s)(V): 3.3 or 5.0; ESD HBM(kV): +/-15; ICC(Max)(mA): 1; Single Supply: TRUE; DatasheetVersion: SLLS350L; PackageVersion: revE, Dec-2001; PackageReference: DB28; PackageDescription: 28-Pin Plastic Small Outline Package, 10.2 x 5.3 mm Body, 0.65 mm Pitch; SubFamily: RS-232; RS-232: TRUE; ComponentLink1Description: Manufacturer URL; ComponentLink1URL: www.ti.com; ComponentLink2Description: Datasheet; ComponentLink2URL: http://www.ti.com/general/docs/lit/getliterature.tsp?genericPartNumber=MAX3243&fileType=pdf; ComponentLink3Description: Package Specification; ComponentLink3URL: http://www.ti.com/litv/pdf/msso002e
footprint TI-DB28_N (SOP, 28-Leads, Body 10.2x5.3mm, Pitch 0.65mm, IPC Medium Density)
footprint TI-DB28_L (SOP, 28-Leads, Body 10.2x5.3mm, Pitch 0.65mm, IPC High Density)
footprint TI-DB28_M (SOP, 28-Leads, Body 10.2x5.3mm, Pitch 0.65mm, IPC Low Density)
pins: 1 C2+, 2 C2-, 3 V- (power), 4 RIN1 (in), 5 RIN2 (in), 6 RIN3 (in), 7 RIN4 (in), 8 RIN5 (in), 9 DOUT1 (hiz), 10 DOUT2 (hiz), 11 DOUT3 (hiz), 12 DIN3 (in), 13 DIN2 (in), 14 DIN1 (in), 15 ROUT5 (hiz), 16 ROUT4 (hiz), 17 ROUT3 (hiz), 18 ROUT2 (hiz), 19 ROUT1 (hiz), 20 ROUT2B (out), 21 ~{INVALID} (out), 22 ~{FORCEOFF} (in), 23 FORCEON (in), 24 C1-, 25 GND (power), 26 VCC (power), 27 V+ (power), 28 C1+

## MAX3243IDBRE4
designator U?
3-V to 5.5-V Multichannel RS-232 Line Driver / Receiver with ±15-kV ESD (HBM) Protection, -40 to 85 degC, 28-Pin SSOP (DB), Green (RoHS & no Sb/Br); Drivers Per Package: 3; Receivers Per Package: 5; Supply Voltage(s)(V): 3.3 or 5.0; ESD HBM(kV): +/-15; ICC(Max)(mA): 1; Single Supply: TRUE; DatasheetVersion: SLLS350L; PackageVersion: revE, Dec-2001; PackageReference: DB28; PackageDescription: 28-Pin Plastic Small Outline Package, 10.2 x 5.3 mm Body, 0.65 mm Pitch; SubFamily: RS-232; RS-232: TRUE; ComponentLink1Description: Manufacturer URL; ComponentLink1URL: www.ti.com; ComponentLink2Description: Datasheet; ComponentLink2URL: http://www.ti.com/general/docs/lit/getliterature.tsp?genericPartNumber=MAX3243&fileType=pdf; ComponentLink3Description: Package Specification; ComponentLink3URL: http://www.ti.com/litv/pdf/msso002e
footprint TI-DB28_N (SOP, 28-Leads, Body 10.2x5.3mm, Pitch 0.65mm, IPC Medium Density)
footprint TI-DB28_L (SOP, 28-Leads, Body 10.2x5.3mm, Pitch 0.65mm, IPC High Density)
footprint TI-DB28_M (SOP, 28-Leads, Body 10.2x5.3mm, Pitch 0.65mm, IPC Low Density)
pins: 1 C2+, 2 C2-, 3 V- (power), 4 RIN1 (in), 5 RIN2 (in), 6 RIN3 (in), 7 RIN4 (in), 8 RIN5 (in), 9 DOUT1 (hiz), 10 DOUT2 (hiz), 11 DOUT3 (hiz), 12 DIN3 (in), 13 DIN2 (in), 14 DIN1 (in), 15 ROUT5 (hiz), 16 ROUT4 (hiz), 17 ROUT3 (hiz), 18 ROUT2 (hiz), 19 ROUT1 (hiz), 20 ROUT2B (out), 21 ~{INVALID} (out), 22 ~{FORCEOFF} (in), 23 FORCEON (in), 24 C1-, 25 GND (power), 26 VCC (power), 27 V+ (power), 28 C1+

## MAX3243IDBRG4
designator U?
3-V to 5.5-V Multichannel RS-232 Line Driver / Receiver with ±15-kV ESD (HBM) Protection, -40 to 85 degC, 28-Pin SSOP (DB), Green (RoHS & no Sb/Br); Drivers Per Package: 3; Receivers Per Package: 5; Supply Voltage(s)(V): 3.3 or 5.0; ESD HBM(kV): +/-15; ICC(Max)(mA): 1; Single Supply: TRUE; DatasheetVersion: SLLS350L; PackageVersion: revE, Dec-2001; PackageReference: DB28; PackageDescription: 28-Pin Plastic Small Outline Package, 10.2 x 5.3 mm Body, 0.65 mm Pitch; SubFamily: RS-232; RS-232: TRUE; ComponentLink1Description: Manufacturer URL; ComponentLink1URL: www.ti.com; ComponentLink2Description: Datasheet; ComponentLink2URL: http://www.ti.com/general/docs/lit/getliterature.tsp?genericPartNumber=MAX3243&fileType=pdf; ComponentLink3Description: Package Specification; ComponentLink3URL: http://www.ti.com/litv/pdf/msso002e
footprint TI-DB28_N (SOP, 28-Leads, Body 10.2x5.3mm, Pitch 0.65mm, IPC Medium Density)
footprint TI-DB28_L (SOP, 28-Leads, Body 10.2x5.3mm, Pitch 0.65mm, IPC High Density)
footprint TI-DB28_M (SOP, 28-Leads, Body 10.2x5.3mm, Pitch 0.65mm, IPC Low Density)
pins: 1 C2+, 2 C2-, 3 V- (power), 4 RIN1 (in), 5 RIN2 (in), 6 RIN3 (in), 7 RIN4 (in), 8 RIN5 (in), 9 DOUT1 (hiz), 10 DOUT2 (hiz), 11 DOUT3 (hiz), 12 DIN3 (in), 13 DIN2 (in), 14 DIN1 (in), 15 ROUT5 (hiz), 16 ROUT4 (hiz), 17 ROUT3 (hiz), 18 ROUT2 (hiz), 19 ROUT1 (hiz), 20 ROUT2B (out), 21 ~{INVALID} (out), 22 ~{FORCEOFF} (in), 23 FORCEON (in), 24 C1-, 25 GND (power), 26 VCC (power), 27 V+ (power), 28 C1+

## MAX3243IDW
designator U?
3-V to 5.5-V Multichannel RS-232 Line Driver / Receiver with ±15-kV ESD (HBM) Protection, -40 to 85 degC, 28-Pin SOIC (DW), Green (RoHS & no Sb/Br); Drivers Per Package: 3; Receivers Per Package: 5; Supply Voltage(s)(V): 3.3 or 5.0; ESD HBM(kV): +/-15; ICC(Max)(mA): 1; Single Supply: TRUE; DatasheetVersion: SLLS350L; PackageVersion: revG, Jan-2011; PackageReference: DW28; PackageDescription: 28-Pin Plastic Small Outline Integrated Circuit, 17.9 x 7.5 mm, Pitch 1.27 mm Pitch; SubFamily: RS-232; RS-232: TRUE; ComponentLink1Description: Manufacturer URL; ComponentLink1URL: www.ti.com; ComponentLink2Description: Datasheet; ComponentLink2URL: http://www.ti.com/general/docs/lit/getliterature.tsp?genericPartNumber=MAX3243&fileType=pdf; ComponentLink3Description: Package Specification; ComponentLink3URL: http://www.ti.com/litv/pdf/mpds175a
footprint TI-DW28_N (SOIC, 28-Leads, Body 17.9x7.5mm, Pitch 1.27mm, IPC Medium Density)
footprint TI-DW28_L (SOIC, 28-Leads, Body 17.9x7.5mm, Pitch 1.27mm, IPC High Density)
footprint TI-DW28_M (SOIC, 28-Leads, Body 17.9x7.5mm, Pitch 1.27mm, IPC Low Density)
pins: 1 C2+, 2 C2-, 3 V- (power), 4 RIN1 (in), 5 RIN2 (in), 6 RIN3 (in), 7 RIN4 (in), 8 RIN5 (in), 9 DOUT1 (hiz), 10 DOUT2 (hiz), 11 DOUT3 (hiz), 12 DIN3 (in), 13 DIN2 (in), 14 DIN1 (in), 15 ROUT5 (hiz), 16 ROUT4 (hiz), 17 ROUT3 (hiz), 18 ROUT2 (hiz), 19 ROUT1 (hiz), 20 ROUT2B (out), 21 ~{INVALID} (out), 22 ~{FORCEOFF} (in), 23 FORCEON (in), 24 C1-, 25 GND (power), 26 VCC (power), 27 V+ (power), 28 C1+